# Altium footprint library CAPPRD350W65D825H1250.PcbLib: 1 footprints
Each footprint in its own frame and in the unit in brackets; x right, y up, seen from the top. Pads: shape width x height; smd on the part's side, far side on the other; paste and mask are expansions set on the pad; w line width, h text height; cw(c..) or ccw(c..) is an arc to the next point about the centre after c.
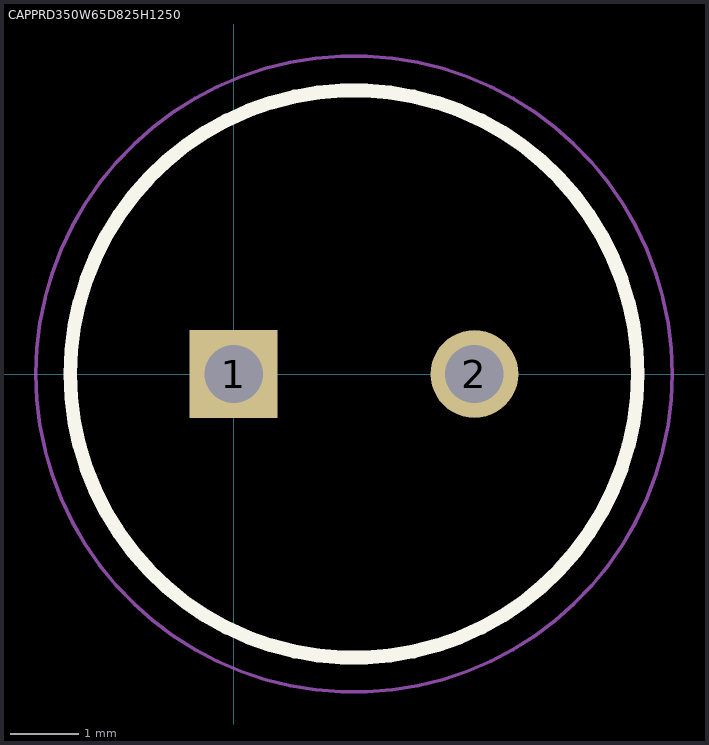
[diagram p0: the footprint, top view; thin cyan lines are the x and y axes]

## CAPPRD350W65D825H1250 [mm]
pads (2):
  rect 1.275x1.275 / inner round 1.275 / far side rect 1.275x1.275 hole 0.85: 1(0,0)
  round 1.275 hole 0.85: 2(3.5,0)
Top Overlay:
  circle w0.2: c1.75,0 r4.125
Mechanical 15:
  circle w0.1: c1.75,0 r4.125
Mechanical 20:
  circle w0.05: c1.75,0 r4.625